# Altium footprint library personal_library.PcbLib: 59 footprints (part 3 of 4)
Each footprint in its own frame and in the unit in brackets; x right, y up, seen from the top. Pads: shape width x height; smd on the part's side, far side on the other; paste and mask are expansions set on the pad; w line width, h text height; cw(c..) or ccw(c..) is an arc to the next point about the centre after c.
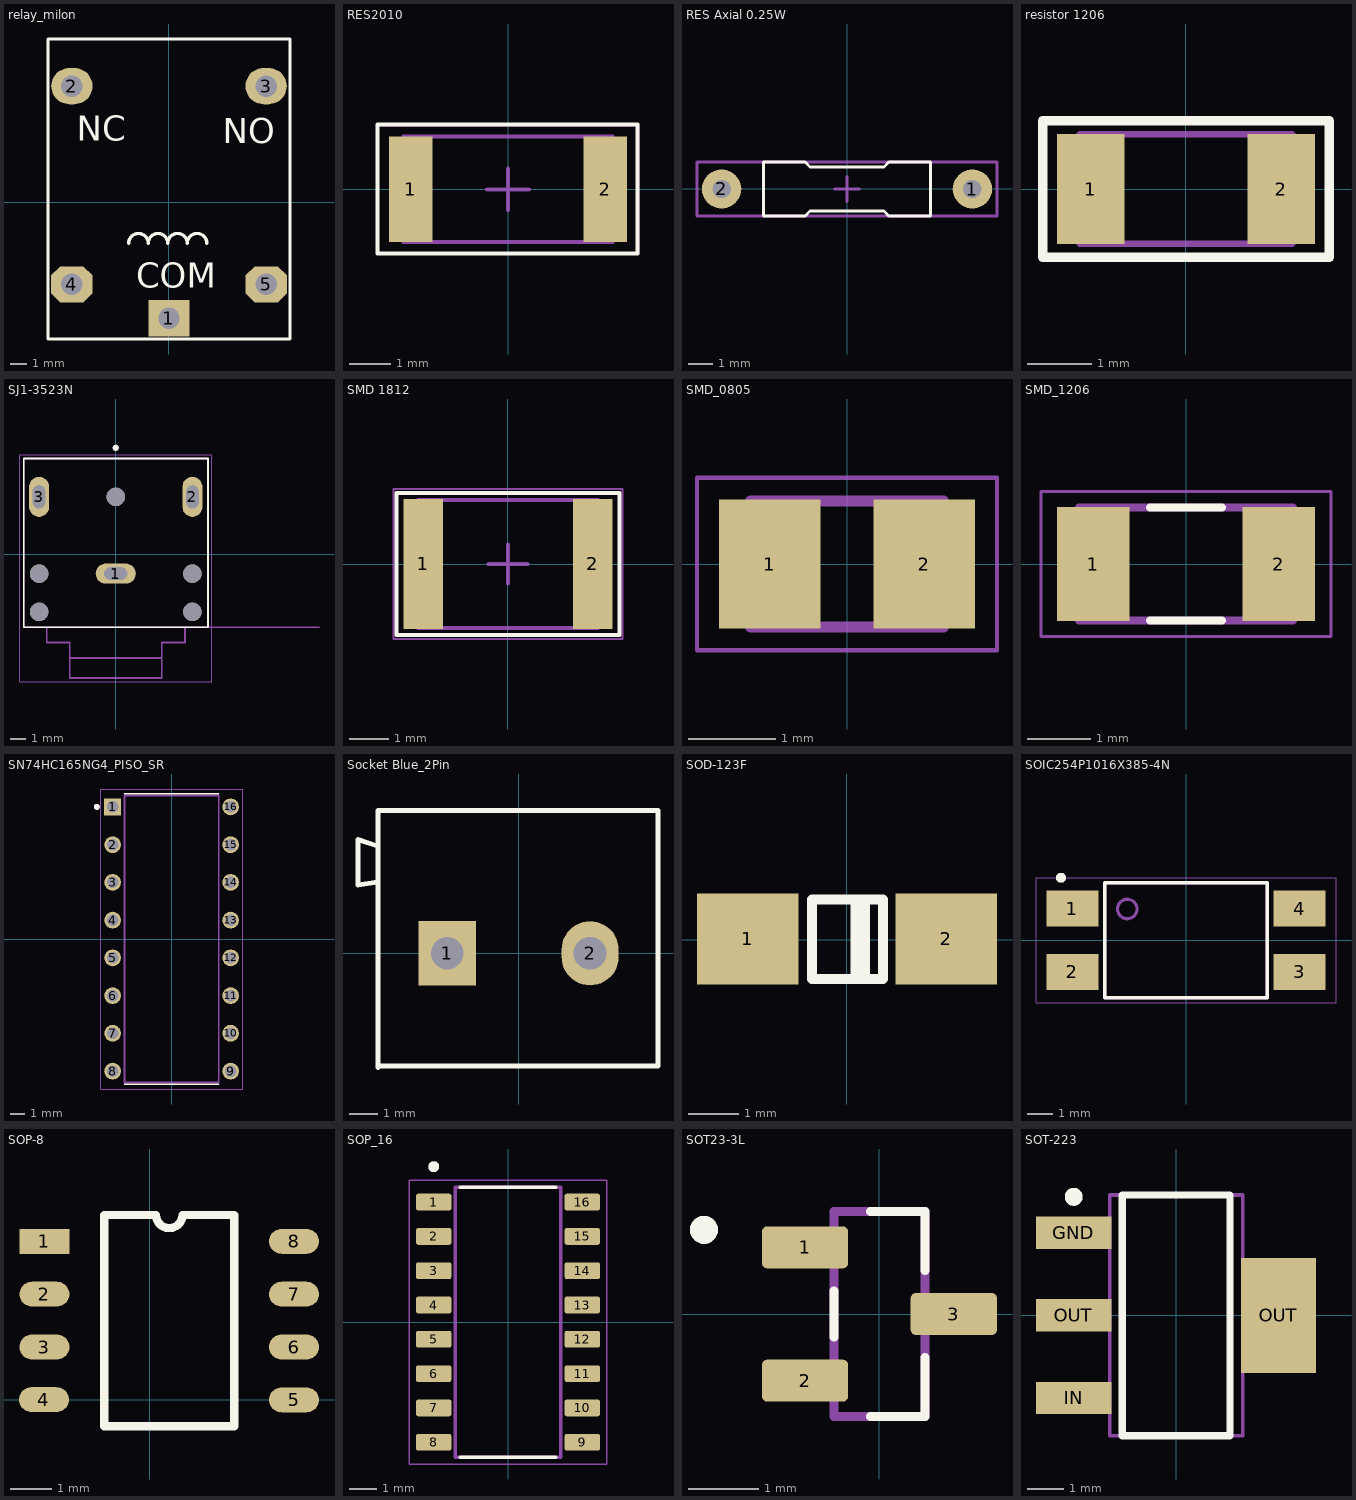
[diagram p2: the footprints below, top view; thin cyan lines are the x and y axes]

## relay_milon [mm]
pads (5):
  rect 2.5x2.2 hole 1.3: 1(0,-7.025)
  oval 2.5x2.2 hole 1.3: 2(-5.875,7.025) 3(5.875,7.025)
  oct 2.5x2.2 hole 1.3: 4(-5.875,-4.975) 5(5.875,-4.975)
Top Overlay:
  lines w0.2: -2.438,-2.48 cw(c-1.847,-2.48) -1.256,-2.48 cw(c-0.665,-2.48) -0.074,-2.48 cw(c0.517,-2.48) 1.108,-2.48 cw(c1.699,-2.48) 2.29,-2.48 ; -7.325,-8.275 -7.325,9.875 7.325,9.875 7.325,-8.275 -7.325,-8.275
  text "COM" at -1.981,-5.182 h1.5
  text "NO" at 3.251,3.556 h1.5
  text "NC" at -5.588,3.734 h1.5
3D body "relay2.STEP": height 15.7, standoff -1.8, extent -7.366,-8.715 7.634,9.985

## RES2010 [mm]
pads (2):
  rect 1.05x2.55 smd: 1(-2.35,0) 2(2.35,0)
Top Overlay:
  lines w0.1: -3.15,-1.55 -3.15,1.57 3.13,1.57 3.13,-1.55 -3.15,-1.55
Mechanical 13:
  lines w0.1: -2.525,-1.275 2.525,-1.275 2.525,1.275 -2.525,1.275 -2.525,-1.275
Mechanical 15:
  lines w0.05: -3.15,-1.55 3.15,-1.55 3.15,1.55 -3.15,1.55 -3.15,-1.55
  lines w0.1: -0.5,0 0.5,0 ; 0,-0.5 0,0.5
3D body "RES2010.step": height 0.55, standoff 0, extent -2.525,-1.275 2.525,1.275

## RES Axial 0.25W [mm]
pads (2):
  round 1.6 hole 0.75: 1(5.1,0) 2(-5.1,0)
Top Overlay:
  lines w0.12: -3.4,-1.1 -3.4,1.1 -1.7,1.1 -1.5,0.9 1.5,0.9 1.7,1.1 3.4,1.1 3.4,-1.1 1.7,-1.1 1.5,-0.9 -1.5,-0.9 -1.7,-1.1 -3.4,-1.1
Mechanical 15:
  lines w0.12: -0.5,0 0.5,0 ; 0,-0.5 0,0.5 ; -6.1,-1.1 -6.1,1.1 6.1,1.1 6.1,-1.1 -6.1,-1.1
3D body "SW3dPS-RESISTOR, 0.25 W, 0.4 IN LEAD PITCH.STEP": height 3.63, standoff -1.84, extent -5.405,-1.156 5.365,1.156

## resistor 1206 [mm]
pads (2):
  rect 1.05x1.7 smd: 1(-1.475,0) 2(1.475,0)
Top Overlay:
  lines w0.15: -2.22,-1.06 2.22,-1.06 2.22,1.06 -2.22,1.06 -2.22,-1.06
Mechanical 13:
  lines w0.1: -1.65,-0.85 -1.65,0.85 1.65,0.85 1.65,-0.85 -1.65,-0.85
Mechanical 15:
  lines w0.05: -2.25,-1.1 -2.25,1.1 2.25,1.1 2.25,-1.1 -2.25,-1.1
3D body "RES1206.step": height 0.94, standoff 0, extent -1.65,-0.85 1.65,0.85

## SJ1-3523N [mm]
pads (8):
  oval 2.616x1.308 hole 0.8 slot 1.5 at 0 deg: 1(0,-1.25)
  oval 1.308x2.616 hole 0.8 slot 1.5 at 90 deg: 2(5,3.75) 3(-5,3.75)
  round 1.2 hole 1.2 unplated: ""(-5,-3.75) ""(-5,-1.25) ""(0,3.75) ""(5,-3.75) ""(5,-1.25)
Top Overlay:
  circle w0.2: c0,6.95 r0.1
  lines w0.127: -6,-4.75 6,-4.75 6,6.25 -6,6.25 -6,-4.75
Mechanical 13:
  circle w0.2: c0,6.95 r0.1
  lines w0.127: 13.25,-4.75 6,-4.75 ; -4.5,-4.75 -4.5,-5.75 -3,-5.75 -3,-6.75 ; -4.5,-4.75 4.5,-4.75 ; -4.5,-4.75 -6,-4.75 -6,6.25 6,6.25 6,-4.75 ; -3,-6.75 3,-6.75 ; -3,-6.75 -3,-8.05 3,-8.05 3,-6.75 ; 3,-6.75 3,-5.75 4.5,-5.75 4.5,-4.75 ; 4.5,-4.75 6,-4.75
  text "PCB EDGE" at 7,-4.5 h0.81
Mechanical 15:
  lines w0.05: -6.25,-8.3 -6.25,6.5 6.25,6.5 6.25,-8.3 -6.25,-8.3
3D body "SJ1-3523N--3DModel-STEP-1.STEP": height 5.55, standoff -2.96, extent -6,-8.057 6,6.243

## SMD 1812 [mm]
pads (2):
  rect 1x3.3 smd: 1(-2.15,0) 2(2.15,0)
Top Overlay:
  lines w0.1: -2.825,-1.8 1.413,-1.8 2.825,-1.8 2.825,1.8 1.413,1.8 -2.825,1.8 -2.825,-1.8
Mechanical 13:
  lines w0.1: -2.275,-1.625 2.275,-1.625 2.275,1.625 -2.275,1.625 -2.275,-1.625
Mechanical 15:
  lines w0.05: -2.9,-1.9 2.9,-1.9 2.9,1.9 -2.9,1.9 -2.9,-1.9
  lines w0.1: -0.5,0 0.5,0 ; 0,-0.5 0,0.5
3D body "CAP1812.step": height 0.55, standoff 0, extent -2.275,-1.625 2.275,1.625

## SMD_0805 [mm]
pads (2):
  rect 1.16x1.47 smd: 1(-0.88,0) 2(0.88,0)
Mechanical 13:
  lines w0.127: -1.1,-0.72 -1.1,0.72 1.1,0.72 1.1,-0.72 -1.1,-0.72
Mechanical 15:
  lines w0.05: -1.713,-0.983 -1.713,0.983 1.713,0.983 1.713,-0.983 -1.713,-0.983
3D body "step_temp.STEP": height 0.94, standoff 0, extent -1.005,-0.625 1.005,0.625

## SMD_1206 [mm]
pads (2):
  rect 1.16x1.82 smd: 1(-1.475,0) 2(1.475,0)
Top Overlay:
  lines w0.127: -0.57,-0.9 0.57,-0.9 ; -0.57,0.9 0.57,0.9
Mechanical 13:
  lines w0.127: -1.7,-0.9 -1.7,0.9 1.7,0.9 1.7,-0.9 -1.7,-0.9
Mechanical 15:
  lines w0.05: -2.308,-1.15 -2.308,1.15 2.308,1.15 2.308,-1.15 -2.308,-1.15
3D body "C1206C105K5RACTU.STEP": height 1.8, standoff 0, extent -1.6,-0.8 1.6,0.8

## SN74HC165NG4_PISO_SR [mm]
pads (16):
  rect 1.13x1.13 / inner round 1.13 / far side rect 1.13x1.13 hole 0.78: 1(-3.97,8.89)
  round 1.13 hole 0.78: 2(-3.97,6.35) 3(-3.97,3.81) 4(-3.97,1.27) 5(-3.97,-1.27) 6(-3.97,-3.81) 7(-3.97,-6.35) 8(-3.97,-8.89) 9(3.97,-8.89) 10(3.97,-6.35) 11(3.97,-3.81) 12(3.97,-1.27) 13(3.97,1.27) 14(3.97,3.81) 15(3.97,6.35) 16(3.97,8.89)
Top Overlay:
  circle w0.2: c-5.035,8.89 r0.1
  lines w0.127: -3.175,-9.775 3.175,-9.775 ; -3.175,9.775 3.175,9.775
Mechanical 13:
  circle w0.2: c-5.035,8.89 r0.1
  lines w0.127: -3.175,-9.653 3.175,-9.653 3.175,9.653 -3.175,9.653 -3.175,-9.653
Mechanical 15:
  lines w0.05: -4.785,-10.095 4.785,-10.095 4.785,10.095 -4.785,10.095 -4.785,-10.095
3D body "step_temp.STEP": height 5.08, standoff -3.3, extent -3.95,-10.67 3.95,10.67

## Socket Blue_2Pin [mil]
pads (2):
  rect 80x90 hole 46: 1(-100,0)
  oval 80x90 hole 46: 2(100,0)
Top Overlay:
  lines w7: -197,100 -225,95.33 -225,159.33 -197,150 ; -197,-160 -197,200 195,200 195,-158 -197,-158 ; -197,-160 -197,-158 ; -197,-160 -197,-159 -197,-158
3D body "Socket Blue_2Pin.STEP": height 493, standoff -263.18, extent -227.46,-157 195.46,200

## SOD-123F [mm]
pads (2):
  rect 2x1.8 smd: 1(-1.96,0.01) 2(1.96,0.01)
Top Overlay:
  rectangle: 0.072,-0.8 0.453,0.837
  lines w0.2: -0.69,-0.777 0.707,-0.777 0.707,0.79 -0.69,0.79 -0.69,-0.777
3D body "User Library-DO-214AC_SMA.step": height 2.16, standoff -0.04, extent -2.5,-1.35 2.5,1.35

## SOIC254P1016X385-4N [mm]
pads (4):
  rect 2.09x1.44 smd: 1(-4.54,1.27) 2(-4.54,-1.27) 3(4.54,-1.27) 4(4.54,1.27)
Top Overlay:
  circle w0.2: c-5,2.5 r0.1
  lines w0.127: -3.25,-2.3 3.25,-2.3 3.25,2.3 -3.25,2.3 -3.25,-2.3
Mechanical 13:
  circle w0.127: c-2.35,1.25 r0.391
  lines w0.127: -3.25,-2.3 3.25,-2.3 3.25,2.3 -3.25,2.3 -3.25,-2.3
Mechanical 15:
  lines w0.05: -6,-2.5 6,-2.5 6,2.5 -6,2.5 -6,-2.5
3D body "step_temp.STEP": height 3.85, standoff 0, extent -5.08,-2.3 5.08,2.3

## SOP-8 [mm]
pads (8):
  rect 1.2x0.6 smd: 1(-2.53,3.805)
  oval 1.2x0.6 smd: 2(-2.53,2.535) 3(-2.53,1.265) 4(-2.54,0) 5(3.47,-0.005) 6(3.47,1.265) 7(3.47,2.535) 8(3.47,3.805)
Top Overlay:
  lines w0.2: -1.095,-0.64 2.035,-0.64 2.035,4.44 0.788,4.44 cw(c0.47,4.44) 0.153,4.44 -1.095,4.44 -1.095,-0.64
3D body "step_temp.STEP": height 1.73, standoff 0, extent -2.606,-0.547 3.389,4.381

## SOP_16 [mm]
pads (16):
  rrect25% 1.31x0.62 smd: 1(-2.75,4.445) 2(-2.75,3.175) 3(-2.75,1.905) 4(-2.75,0.635) 5(-2.75,-0.635) 6(-2.75,-1.905) 7(-2.75,-3.175) 8(-2.75,-4.445) 9(2.75,-4.445) 10(2.75,-3.175) 11(2.75,-1.905) 12(2.75,-0.635) 13(2.75,0.635) 14(2.75,1.905) 15(2.75,3.175) 16(2.75,4.445)
Top Overlay:
  circle w0.2: c-2.75,5.755 r0.1
  lines w0.127: -1.775,-5 1.775,-5 ; -1.775,5 1.775,5
Mechanical 13:
  circle w0.2: c-2.75,5.755 r0.1
  lines w0.127: -1.95,-5 -1.95,5 1.95,5 1.95,-5 -1.95,-5
Mechanical 15:
  lines w0.05: -3.655,-5.25 -3.655,5.25 3.655,5.25 3.655,-5.25 -3.655,-5.25
3D body "step_temp.STEP": height 1.8, standoff 0, extent -3,-5 3,5

## SOT23-3L [mm]
pads (3):
  rrect25% 1.23x0.6 smd: 1(-1.06,0.95) 2(-1.06,-0.95) 3(1.06,0)
Top Overlay:
  circle w0.2: c-2.5,1.2 r0.1
  lines w0.127: -0.65,-0.33 -0.65,0.33 ; -0.125,-1.46 0.65,-1.46 0.65,-0.62 ; -0.125,1.46 0.65,1.46 0.65,0.62
Mechanical 13:
  circle w0.2: c-2.5,1.2 r0.1
  lines w0.127: -0.65,-1.46 -0.65,1.46 0.65,1.46 0.65,-1.46 -0.65,-1.46
3D body "step_temp.STEP": height 1.12, standoff 0, extent -1.255,-1.46 1.255,1.46

## SOT-223 [mm]
pads (4):
  rect 2.1x0.9 smd: GND(-2.85,2.3) IN(-2.85,-2.3) OUT(-2.85,0)
  rect 2.1x3.2 smd: OUT(2.85,0)
Top Overlay:
  circle w0.25: c-2.85,3.3 r0.125
  lines w0.2: -1.5,-3.35 -1.5,3.35 1.5,3.35 1.5,-3.35 -1.5,-3.35
Mechanical 13:
  lines w0.1: -1.85,-3.35 -1.85,3.35 1.85,3.35 1.85,-3.35 -1.85,-3.35
3D body "TO-223.STEP": height 1.64, standoff -0.04, extent -3.49,-3.242 3.49,3.242